# Altium schematic symbol library UFL.Schlib: 2 symbols
Pins are listed as number, name and electrical type; pins without a type are passive.

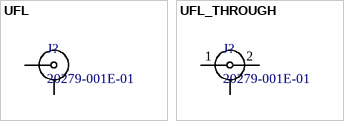
[diagram p0: symbols UFL to UFL_THROUGH]

## UFL
designator J?, comment 20279-001E-01
Miniaturowe 1G, męskie gniazdo RF, antenowe, o wysokość 1.25mm, 1G, 0-6 GHz, do montażu SMT, RoHS, [IPEX:20279-001E-01, HRS:U.FL-R-SMT]
pins: SH, SIG

## UFL_THROUGH
designator J?, comment 20279-001E-01
Miniaturowe 1G, męskie gniazdo RF, antenowe, o wysokość 1.25mm, 1G, 0-6 GHz, do montażu SMT, RoHS, [IPEX:20279-001E-01, HRS:U.FL-R-SMT]
pins: 1, 2, SH